# Altium schematic symbol library CAP POL 0.1uF 100V.Schlib: 1 symbol
Pins are listed as number, name and electrical type; pins without a type are passive.

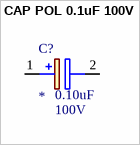
[diagram p0: symbol CAP POL 0.1uF 100V]

## CAP POL 0.1uF 100V
designator C?  value 0.10uF  Rating: 100V
0.1µF 100V Aluminum Electrolytic Capacitors, Through-Hole, Radial, Can 2000 Hrs @ 85°C; Manufacturer_Name: Nichicon; Manufacturer Part Number: UKL2A0R1KDD; Datasheet Link: http://www.mouser.com/ds/2/293/e-ukl-876305.pdf; Height: 12.5mm; Supplier 1: Digi-Key; Supplier Part Number 1: 493-16876-ND
footprint CAPPRD200W50D525H1250
pins: 1 +, 2 -